# EAGLE library part LM27762DSSR (library shepherd)
Low-Noise Positive- and Negative-Output Charge Pump With Integrated LDO 12-WSON -40 to 85
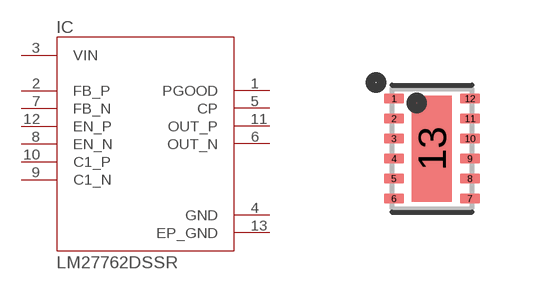
[diagram p9: symbol with the pads of VREG_LM27762DSSR; footprint VREG_LM27762DSSR]

Designator prefix IC

## LM27762DSSR (AVAILABILITY: Good; DESCRIPTION: Low-Noise Positive- and Negative-Output Charge Pump With Integrated LDO 12-WSON -40 to 85; MF: Texas Instruments; MP: LM27762DSSR; PACKAGE: WSON-12 Texas Instruments; PRICE: 1.30 USD)  [VREG_LM27762DSSR]
1  PGOOD  out
2  FB_P  in
3  VIN  in
4  GND  pwr
5  CP  out
6  OUT_N  out
7  FB_N  in
8  EN_N  in
9  C1_N  in
10  C1_P  in
11  OUT_P  out
12  EN_P  in
13  EP_GND  pwr

## Footprint VREG_LM27762DSSR (pad centres in mm)
smd 0.5 x 0.25: 1 -0.95,1.25; 2 -0.95,0.75; 3 -0.95,0.25; 4 -0.95,-0.25; 5 -0.95,-0.75; 6 -0.95,-1.25; 7 0.95,-1.25; 8 0.95,-0.75; 9 0.95,-0.25; 10 0.95,0.25; 11 0.95,0.75; 12 0.95,1.25
smd 1 x 2.65: 13 0,0